# Altium footprint library ACS756.PcbLib: 1 footprints
Each footprint in its own frame and in the unit in brackets; x right, y up, seen from the top. Pads: shape width x height; smd on the part's side, far side on the other; paste and mask are expansions set on the pad; w line width, h text height; cw(c..) or ccw(c..) is an arc to the next point about the centre after c.
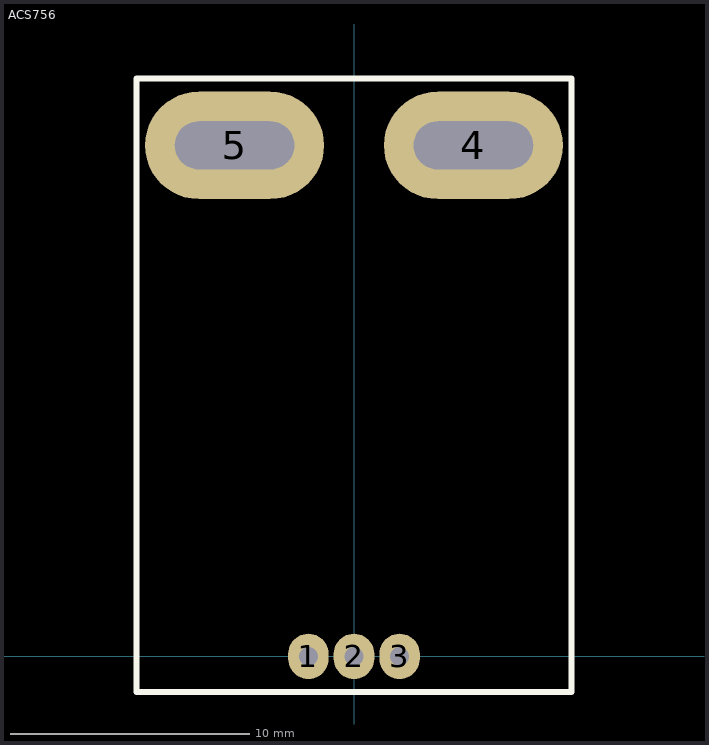
[diagram p0: the footprint, top view; thin cyan lines are the x and y axes]

## ACS756 [mm]
pads (5):
  oval 1.7x1.9 hole 0.8: 1(-1.91,0) 2(0,0) 3(1.91,0)
  oval 7.5x4.5 hole 2 slot 5 at 0 deg: 4(5,21.4) 5(-5,21.4)
Top Overlay:
  lines w0.254: -9.1,-1.5 9.1,-1.5 9.1,24.2 -9.1,24.2 -9.1,-1.5